# Altium footprint library EISI.PcbLib: 695 footprints (part 29 of 44)
Each footprint in its own frame and in the unit in brackets; x right, y up, seen from the top. Pads: shape width x height; smd on the part's side, far side on the other; paste and mask are expansions set on the pad; w line width, h text height; cw(c..) or ccw(c..) is an arc to the next point about the centre after c.
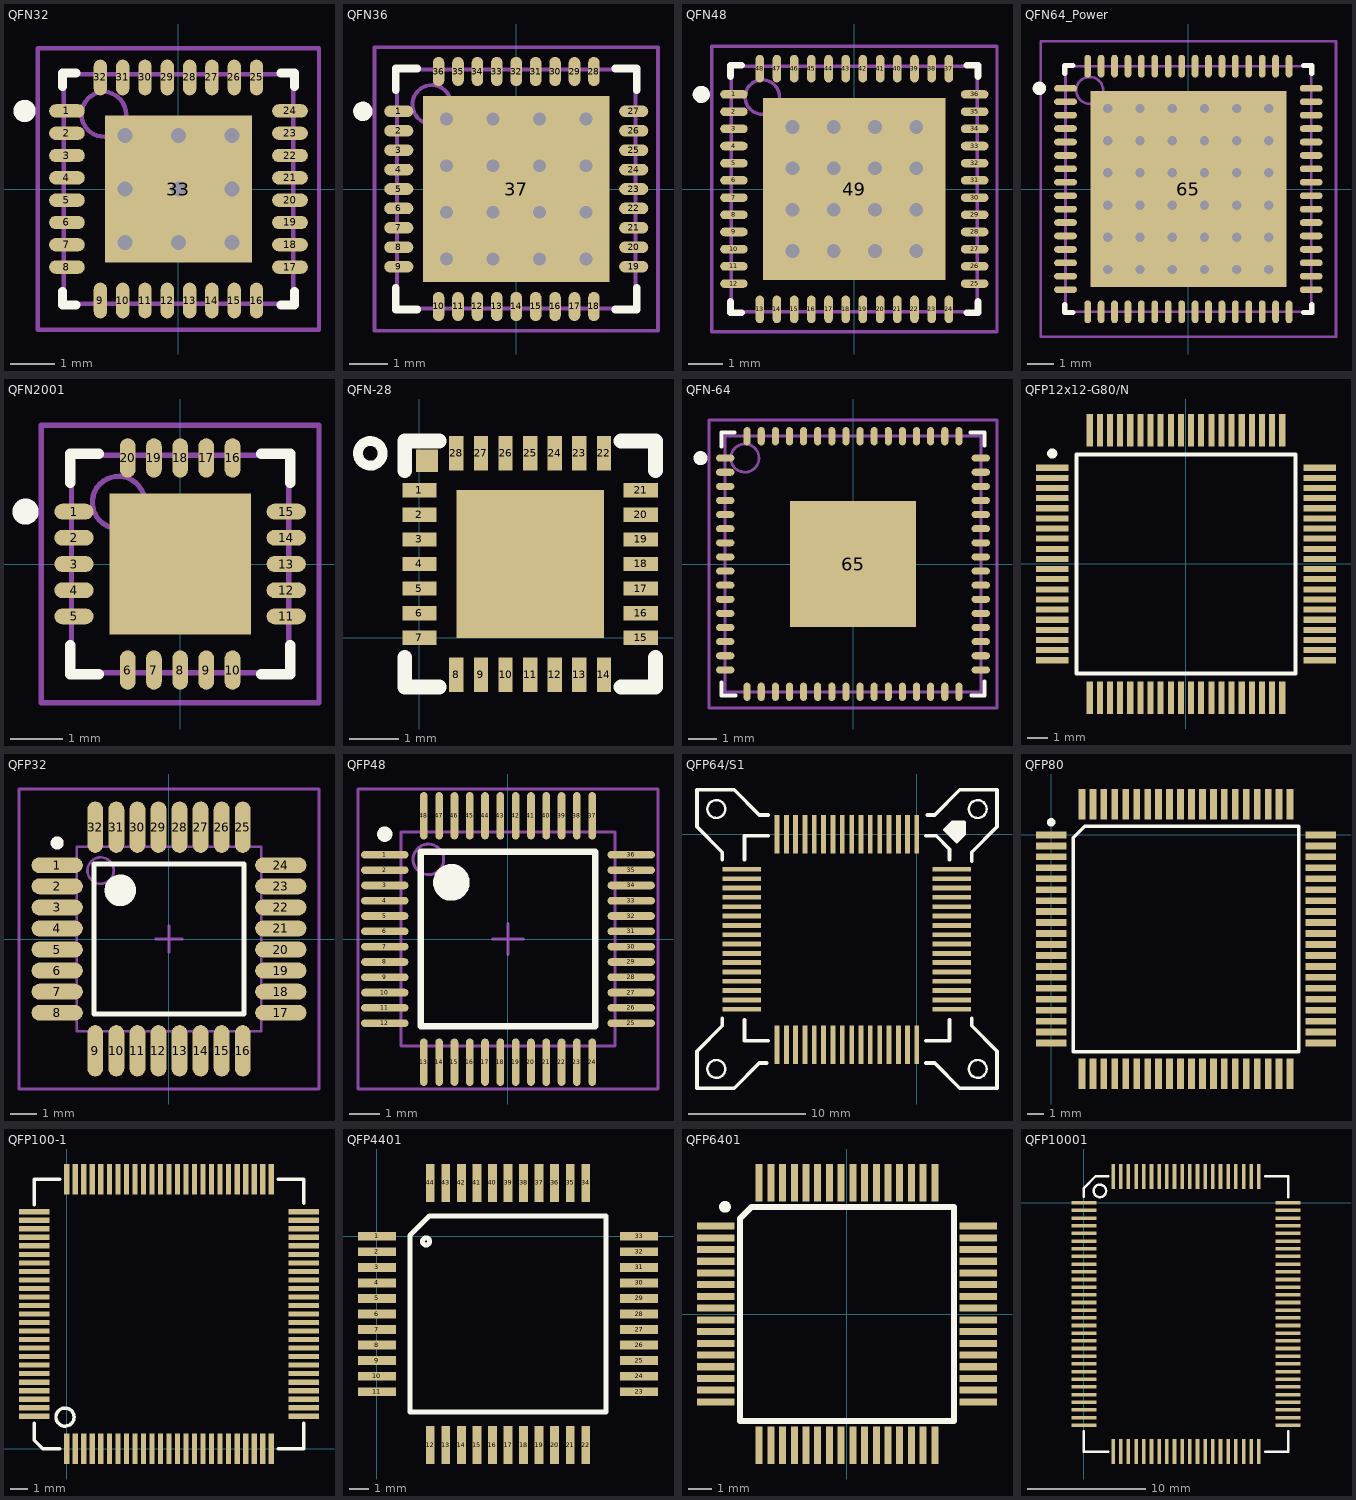
[diagram p28: the footprints below, top view; thin cyan lines are the x and y axes]

## QFN32 [mm] "QFN, 32-Leads, Body 5x5mm, Pitch 0.5mm, IPC Medium Density"
height 1
pads (33):
  oval 0.8x0.3 smd: 1(-2.5,1.75) 2(-2.5,1.25) 3(-2.5,0.75) 4(-2.5,0.25) 5(-2.5,-0.25) 6(-2.5,-0.75) 7(-2.5,-1.25) 8(-2.5,-1.75) 17(2.5,-1.75) 18(2.5,-1.25) 19(2.5,-0.75) 20(2.5,-0.25) 21(2.5,0.25) 22(2.5,0.75) 23(2.5,1.25) 24(2.5,1.75)
  oval 0.3x0.8 smd: 9(-1.75,-2.5) 10(-1.25,-2.5) 11(-0.75,-2.5) 12(-0.25,-2.5) 13(0.25,-2.5) 14(0.75,-2.5) 15(1.25,-2.5) 16(1.75,-2.5) 25(1.75,2.5) 26(1.25,2.5) 27(0.75,2.5) 28(0.25,2.5) 29(-0.25,2.5) 30(-0.75,2.5) 31(-1.25,2.5) 32(-1.75,2.5)
  rect 3.3x3.3 smd: 33(0,0)
via -1.2,1.2 diameter 0.66 hole 0.33
via 0,1.2 diameter 0.66 hole 0.33
via 1.2,1.2 diameter 0.66 hole 0.33
via -1.2,0 diameter 0.66 hole 0.33
via 0,0 diameter 0.66 hole 0.33
via 1.2,0 diameter 0.66 hole 0.33
via -1.2,-1.2 diameter 0.66 hole 0.33
via 0,-1.2 diameter 0.66 hole 0.33
via 1.2,-1.2 diameter 0.66 hole 0.33
TopOverlay:
  circle w0.25: c-3.45,1.75 r0.125
  lines w0.2: -2.6,-2.3 -2.6,-2.6 -2.3,-2.6 ; -2.6,2.3 -2.6,2.6 -2.3,2.6 ; 2.3,-2.6 2.6,-2.6 2.6,-2.3 ; 2.3,2.6 2.6,2.6 2.6,2.3
Mechanical13:
  circle w0.1: c-1.675,1.675 r0.5
  lines w0.1: -2.575,-2.575 -2.575,2.575 2.575,2.575 2.575,-2.575 -2.575,-2.575
Mechanical15:
  lines w0.1: -0.5,0 0.5,0 ; 0,-0.5 0,0.5 ; -3.15,-3.15 -3.15,3.15 3.15,3.15 3.15,-3.15 -3.15,-3.15
3D body: height 1, standoff 0, extent -2.575,-2.575 2.575,2.575

## QFN36 [mm] "QFN, 36-Leads, Body 6x6mm, Pitch 0.5mm, IPC Medium Density"
height 0.8
pads (37):
  oval 0.75x0.3 smd: 1(-3.025,2) 2(-3.025,1.5) 3(-3.025,1) 4(-3.025,0.5) 5(-3.025,0) 6(-3.025,-0.5) 7(-3.025,-1) 8(-3.025,-1.5) 9(-3.025,-2) 19(3.025,-2) 20(3.025,-1.5) 21(3.025,-1) 22(3.025,-0.5) 23(3.025,0) 24(3.025,0.5) 25(3.025,1) 26(3.025,1.5) 27(3.025,2)
  oval 0.3x0.75 smd: 10(-2,-3.025) 11(-1.5,-3.025) 12(-1,-3.025) 13(-0.5,-3.025) 14(0,-3.025) 15(0.5,-3.025) 16(1,-3.025) 17(1.5,-3.025) 18(2,-3.025) 28(2,3.025) 29(1.5,3.025) 30(1,3.025) 31(0.5,3.025) 32(0,3.025) 33(-0.5,3.025) 34(-1,3.025) 35(-1.5,3.025) 36(-2,3.025)
  rect 4.8x4.8 smd: 37(0,0)
via -1.8,1.8 diameter 0.66 hole 0.33
via -0.6,1.8 diameter 0.66 hole 0.33
via 0.6,1.8 diameter 0.66 hole 0.33
via 1.8,1.8 diameter 0.66 hole 0.33
via -1.8,0.6 diameter 0.66 hole 0.33
via -0.6,0.6 diameter 0.66 hole 0.33
via 0.6,0.6 diameter 0.66 hole 0.33
via 1.8,0.6 diameter 0.66 hole 0.33
via -1.8,-0.6 diameter 0.66 hole 0.33
via -0.6,-0.6 diameter 0.66 hole 0.33
via 0.6,-0.6 diameter 0.66 hole 0.33
via 1.8,-0.6 diameter 0.66 hole 0.33
via -1.8,-1.8 diameter 0.66 hole 0.33
via -0.6,-1.8 diameter 0.66 hole 0.33
via 0.6,-1.8 diameter 0.66 hole 0.33
via 1.8,-1.8 diameter 0.66 hole 0.33
TopOverlay:
  circle w0.25: c-3.95,2 r0.125
  lines w0.2: -3.1,-2.55 -3.1,-3.1 -2.55,-3.1 ; -3.1,2.55 -3.1,3.1 -2.55,3.1 ; 2.55,-3.1 3.1,-3.1 3.1,-2.55 ; 2.55,3.1 3.1,3.1 3.1,2.55
Mechanical13:
  circle w0.1: c-2.175,2.175 r0.5
  lines w0.1: -3.075,-3.075 -3.075,3.075 3.075,3.075 3.075,-3.075 -3.075,-3.075
Mechanical15:
  lines w0.1: -0.5,0 0.5,0 ; 0,-0.5 0,0.5 ; -3.65,-3.65 -3.65,3.65 3.65,3.65 3.65,-3.65 -3.65,-3.65
3D body: height 0.8, standoff 0, extent -3.075,-3.075 3.075,3.075

## QFN48 [mm] "48-Pin Quad Flat No-Lead (QFG48)"
height 1
pads (49):
  oval 0.8x0.25 smd: 1(-3.5,2.75) 2(-3.5,2.25) 3(-3.5,1.75) 4(-3.5,1.25) 5(-3.5,0.75) 6(-3.5,0.25) 7(-3.5,-0.25) 8(-3.5,-0.75) 9(-3.5,-1.25) 10(-3.5,-1.75) 11(-3.5,-2.25) 12(-3.5,-2.75) 25(3.5,-2.75) 26(3.5,-2.25) 27(3.5,-1.75) 28(3.5,-1.25) 29(3.5,-0.75) 30(3.5,-0.25) 31(3.5,0.25) 32(3.5,0.75) 33(3.5,1.25) 34(3.5,1.75) 35(3.5,2.25) 36(3.5,2.75)
  oval 0.25x0.8 smd: 13(-2.75,-3.5) 14(-2.25,-3.5) 15(-1.75,-3.5) 16(-1.25,-3.5) 17(-0.75,-3.5) 18(-0.25,-3.5) 19(0.25,-3.5) 20(0.75,-3.5) 21(1.25,-3.5) 22(1.75,-3.5) 23(2.25,-3.5) 24(2.75,-3.5) 37(2.75,3.5) 38(2.25,3.5) 39(1.75,3.5) 40(1.25,3.5) 41(0.75,3.5) 42(0.25,3.5) 43(-0.25,3.5) 44(-0.75,3.5) 45(-1.25,3.5) 46(-1.75,3.5) 47(-2.25,3.5) 48(-2.75,3.5)
  rect 5.3x5.3 smd: 49(0,0)
via -1.8,1.8 diameter 0.8 hole 0.4
via -0.6,1.8 diameter 0.8 hole 0.4
via 0.6,1.8 diameter 0.8 hole 0.4
via 1.8,1.8 diameter 0.8 hole 0.4
via -1.8,0.6 diameter 0.8 hole 0.4
via -0.6,0.6 diameter 0.8 hole 0.4
via 0.6,0.6 diameter 0.8 hole 0.4
via 1.8,0.6 diameter 0.8 hole 0.4
via -1.8,-0.6 diameter 0.8 hole 0.4
via -0.6,-0.6 diameter 0.8 hole 0.4
via 0.6,-0.6 diameter 0.8 hole 0.4
via 1.8,-0.6 diameter 0.8 hole 0.4
via -1.8,-1.8 diameter 0.8 hole 0.4
via -0.6,-1.8 diameter 0.8 hole 0.4
via 0.6,-1.8 diameter 0.8 hole 0.4
via 1.8,-1.8 diameter 0.8 hole 0.4
TopOverlay:
  circle w0.25: c-4.45,2.75 r0.125
  lines w0.2: -3.6,-3.275 -3.6,-3.6 -3.275,-3.6 ; -3.6,3.275 -3.6,3.6 -3.275,3.6 ; 3.275,-3.6 3.6,-3.6 3.6,-3.275 ; 3.275,3.6 3.6,3.6 3.6,3.275
Mechanical13:
  circle w0.1: c-2.675,2.675 r0.5
  lines w0.1: -3.575,-3.575 -3.575,3.575 3.575,3.575 3.575,-3.575 -3.575,-3.575
Mechanical15:
  lines w0.1: -0.5,0 0.5,0 ; 0,-0.5 0,0.5 ; -4.15,-4.15 -4.15,4.15 4.15,4.15 4.15,-4.15 -4.15,-4.15
3D body: height 1, standoff 0, extent -3.575,-3.575 3.575,3.575

## QFN64_Power [mm] "QFN, 64-Leads, Body 9x9mm, Pitch 0.5mm, IPC Low Density"
height 0.9
pads (65):
  oval 0.85x0.25 smd: 1(-4.575,3.75) 2(-4.575,3.25) 3(-4.575,2.75) 4(-4.575,2.25) 5(-4.575,1.75) 6(-4.575,1.25) 7(-4.575,0.75) 8(-4.575,0.25) 9(-4.575,-0.25) 10(-4.575,-0.75) 11(-4.575,-1.25) 12(-4.575,-1.75) 13(-4.575,-2.25) 14(-4.575,-2.75) 15(-4.575,-3.25) 16(-4.575,-3.75) 33(4.575,-3.75) 34(4.575,-3.25) 35(4.575,-2.75) 36(4.575,-2.25) 37(4.575,-1.75) 38(4.575,-1.25) 39(4.575,-0.75) 40(4.575,-0.25) 41(4.575,0.25) 42(4.575,0.75) 43(4.575,1.25) 44(4.575,1.75) 45(4.575,2.25) 46(4.575,2.75) 47(4.575,3.25) 48(4.575,3.75)
  oval 0.25x0.85 smd: 17(-3.75,-4.575) 18(-3.25,-4.575) 19(-2.75,-4.575) 20(-2.25,-4.575) 21(-1.75,-4.575) 22(-1.25,-4.575) 23(-0.75,-4.575) 24(-0.25,-4.575) 25(0.25,-4.575) 26(0.75,-4.575) 27(1.25,-4.575) 28(1.75,-4.575) 29(2.25,-4.575) 30(2.75,-4.575) 31(3.25,-4.575) 32(3.75,-4.575) 49(3.75,4.575) 50(3.25,4.575) 51(2.75,4.575) 52(2.25,4.575) 53(1.75,4.575) 54(1.25,4.575) 55(0.75,4.575) 56(0.25,4.575) 57(-0.25,4.575) 58(-0.75,4.575) 59(-1.25,4.575) 60(-1.75,4.575) 61(-2.25,4.575) 62(-2.75,4.575) 63(-3.25,4.575) 64(-3.75,4.575)
  rect 7.3x7.3 smd: 65(0,0)
via -3,3 diameter 0.7 hole 0.35
via -1.8,3 diameter 0.7 hole 0.35
via -0.6,3 diameter 0.7 hole 0.35
via 0.6,3 diameter 0.7 hole 0.35
via 1.8,3 diameter 0.7 hole 0.35
via 3,3 diameter 0.7 hole 0.35
via -3,1.8 diameter 0.7 hole 0.35
via -1.8,1.8 diameter 0.7 hole 0.35
via -0.6,1.8 diameter 0.7 hole 0.35
via 0.6,1.8 diameter 0.7 hole 0.35
via 1.8,1.8 diameter 0.7 hole 0.35
via 3,1.8 diameter 0.7 hole 0.35
via -3,0.6 diameter 0.7 hole 0.35
via -1.8,0.6 diameter 0.7 hole 0.35
via -0.6,0.6 diameter 0.7 hole 0.35
via 0.6,0.6 diameter 0.7 hole 0.35
via 1.8,0.6 diameter 0.7 hole 0.35
via 3,0.6 diameter 0.7 hole 0.35
via -3,-0.6 diameter 0.7 hole 0.35
via -1.8,-0.6 diameter 0.7 hole 0.35
via -0.6,-0.6 diameter 0.7 hole 0.35
via 0.6,-0.6 diameter 0.7 hole 0.35
via 1.8,-0.6 diameter 0.7 hole 0.35
via 3,-0.6 diameter 0.7 hole 0.35
via -3,-1.8 diameter 0.7 hole 0.35
via -1.8,-1.8 diameter 0.7 hole 0.35
via -0.6,-1.8 diameter 0.7 hole 0.35
via 0.6,-1.8 diameter 0.7 hole 0.35
via 1.8,-1.8 diameter 0.7 hole 0.35
via 3,-1.8 diameter 0.7 hole 0.35
via -3,-3 diameter 0.7 hole 0.35
via -1.8,-3 diameter 0.7 hole 0.35
via -0.6,-3 diameter 0.7 hole 0.35
via 0.6,-3 diameter 0.7 hole 0.35
via 1.8,-3 diameter 0.7 hole 0.35
via 3,-3 diameter 0.7 hole 0.35
TopOverlay:
  circle w0.25: c-5.55,3.75 r0.125
  lines w0.2: -4.6,-4.3 -4.6,-4.6 -4.3,-4.6 ; -4.6,4.3 -4.6,4.6 -4.3,4.6 ; 4.3,-4.6 4.6,-4.6 4.6,-4.3 ; 4.3,4.6 4.6,4.6 4.6,4.3
Mechanical13:
  circle w0.1: c-3.675,3.675 r0.5
  lines w0.1: -4.575,-4.575 -4.575,4.575 4.575,4.575 4.575,-4.575 -4.575,-4.575
Mechanical15:
  lines w0.1: -0.5,0 0.5,0 ; 0,-0.5 0,0.5 ; -5.5,-5.5 -5.5,5.5 5.5,5.5 5.5,-5.5 -5.5,-5.5
3D body: height 0.8, standoff 0, extent -4.575,-4.575 4.575,4.575

## QFN2001 [mm] "QFN, 20-Leads, Body 4x4mm, Pitch 0.5mm, IPC Medium Density"
height 0.8
pads (21):
  oval 0.75x0.3 smd: 1(-2.025,1) 2(-2.025,0.5) 3(-2.025,0) 4(-2.025,-0.5) 5(-2.025,-1) 11(2.025,-1) 12(2.025,-0.5) 13(2.025,0) 14(2.025,0.5) 15(2.025,1)
  oval 0.3x0.75 smd: 6(-1,-2.025) 7(-0.5,-2.025) 8(0,-2.025) 9(0.5,-2.025) 10(1,-2.025) 16(1,2.025) 17(0.5,2.025) 18(0,2.025) 19(-0.5,2.025) 20(-1,2.025)
  rect 2.7x2.7 smd: ""(0,0)
TopOverlay:
  circle w0.25: c-2.95,1 r0.125
  lines w0.2: -2.1,-1.55 -2.1,-2.1 -1.55,-2.1 ; -2.1,1.55 -2.1,2.1 -1.55,2.1 ; 1.55,-2.1 2.1,-2.1 2.1,-1.55 ; 1.55,2.1 2.1,2.1 2.1,1.55
Mechanical13:
  circle w0.1: c-1.175,1.175 r0.5
  lines w0.1: -2.075,-2.075 -2.075,2.075 2.075,2.075 2.075,-2.075 -2.075,-2.075
Mechanical15:
  lines w0.1: -0.5,0 0.5,0 ; 0,-0.5 0,0.5 ; -2.65,-2.65 -2.65,2.65 2.65,2.65 2.65,-2.65 -2.65,-2.65
3D body: height 0.8, standoff 0, extent -2.075,-2.075 2.075,2.075

## QFN-28 [mm] "Quad Flat No Lead, Plastic; 16 Terminals; Body 4 x 4 mm; Pitch 0.65 mm"
height 1
pads (30):
  rect 0.7x0.29 smd: 1(0,3) 2(0,2.5) 3(0,2) 4(0,1.5) 5(0,1) 6(0,0.5) 7(0,0) 15(4.5,0) 16(4.5,0.5) 17(4.5,1) 18(4.5,1.5) 19(4.5,2) 20(4.5,2.5) 21(4.5,3)
  rect 0.29x0.7 smd: 8(0.75,-0.75) 9(1.25,-0.75) 10(1.75,-0.75) 11(2.25,-0.75) 12(2.75,-0.75) 13(3.25,-0.75) 14(3.75,-0.75) 22(3.75,3.75) 23(3.25,3.75) 24(2.75,3.75) 25(2.25,3.75) 26(1.75,3.75) 27(1.25,3.75) 28(0.75,3.75)
  rect 0.45x0.45 smd: ""(0.15,3.6)
  rect 3x3 smd: ""(2.25,1.5)
TopOverlay:
  circle w0.2: c-1,3.75 r0.25
  lines w0.3: -0.3,-0.4 -0.3,-1 0.4,-1 ; -0.3,3.4 -0.3,4 0.4,4 ; 4.1,-1 4.8,-1 4.8,-0.4 ; 4.1,4 4.8,4 4.8,3.4

## QFN-64 [mm] "64-Pin QFN 0.5 mm Pitch"
height 1
pads (65):
  oval 0.65x0.25 smd: 1(-4.525,3.75) 2(-4.525,3.25) 3(-4.525,2.75) 4(-4.525,2.25) 5(-4.525,1.75) 6(-4.525,1.25) 7(-4.525,0.75) 8(-4.525,0.25) 9(-4.525,-0.25) 10(-4.525,-0.75) 11(-4.525,-1.25) 12(-4.525,-1.75) 13(-4.525,-2.25) 14(-4.525,-2.75) 15(-4.525,-3.25) 16(-4.525,-3.75) 33(4.525,-3.75) 34(4.525,-3.25) 35(4.525,-2.75) 36(4.525,-2.25) 37(4.525,-1.75) 38(4.525,-1.25) 39(4.525,-0.75) 40(4.525,-0.25) 41(4.525,0.25) 42(4.525,0.75) 43(4.525,1.25) 44(4.525,1.75) 45(4.525,2.25) 46(4.525,2.75) 47(4.525,3.25) 48(4.525,3.75)
  oval 0.25x0.65 smd: 17(-3.75,-4.525) 18(-3.25,-4.525) 19(-2.75,-4.525) 20(-2.25,-4.525) 21(-1.75,-4.525) 22(-1.25,-4.525) 23(-0.75,-4.525) 24(-0.25,-4.525) 25(0.25,-4.525) 26(0.75,-4.525) 27(1.25,-4.525) 28(1.75,-4.525) 29(2.25,-4.525) 30(2.75,-4.525) 31(3.25,-4.525) 32(3.75,-4.525) 49(3.75,4.525) 50(3.25,4.525) 51(2.75,4.525) 52(2.25,4.525) 53(1.75,4.525) 54(1.25,4.525) 55(0.75,4.525) 56(0.25,4.525) 57(-0.25,4.525) 58(-0.75,4.525) 59(-1.25,4.525) 60(-1.75,4.525) 61(-2.25,4.525) 62(-2.75,4.525) 63(-3.25,4.525) 64(-3.75,4.525)
  rect 4.45x4.45 smd: 65(0,0)
TopOverlay:
  circle w0.25: c-5.4,3.75 r0.125
  lines w0.15: -4.66,-4.2 -4.66,-4.66 -4.16,-4.66 ; -4.66,4.16 -4.66,4.66 -4.2,4.66 ; 4.16,4.66 4.66,4.66 4.66,4.2 ; 4.2,-4.66 4.66,-4.66 4.66,-4.16
Mechanical13:
  circle w0.1: c-3.83,3.75 r0.5
  lines w0.1: -4.535,-4.535 -4.535,4.535 4.535,4.535 4.535,-4.535 -4.535,-4.535
Mechanical15:
  lines w0.1: -0.5,0 0.5,0 ; 0,-0.5 0,0.5 ; -5.1,-5.1 -5.1,5.1 5.1,5.1 5.1,-5.1 -5.1,-5.1
3D body: height 1, standoff 0.05, extent -4.535,-4.535 4.535,4.535

## QFP12x12-G80/N [mm] "QFP80"
pads (80):
  rect 1.6x0.3 smd: 1(-6.6,4.75) 2(-6.6,4.25) 3(-6.6,3.75) 4(-6.6,3.25) 5(-6.6,2.75) 6(-6.6,2.25) 7(-6.6,1.75) 8(-6.6,1.25) 9(-6.6,0.75) 10(-6.6,0.25) 11(-6.6,-0.25) 12(-6.6,-0.75) 13(-6.6,-1.25) 14(-6.6,-1.75) 15(-6.6,-2.25) 16(-6.6,-2.75) 17(-6.6,-3.25) 18(-6.6,-3.75) 19(-6.6,-4.25) 20(-6.6,-4.75) 41(6.6,-4.75) 42(6.6,-4.25) 43(6.6,-3.75) 44(6.6,-3.25) 45(6.6,-2.75) 46(6.6,-2.25) 47(6.6,-1.75) 48(6.6,-1.25) 49(6.6,-0.75) 50(6.6,-0.25) 51(6.6,0.25) 52(6.6,0.75) 53(6.6,1.25) 54(6.6,1.75) 55(6.6,2.25) 56(6.6,2.75) 57(6.6,3.25) 58(6.6,3.75) 59(6.6,4.25) 60(6.6,4.75)
  rect 0.3x1.6 smd: 21(-4.75,-6.6) 22(-4.25,-6.6) 23(-3.75,-6.6) 24(-3.25,-6.6) 25(-2.75,-6.6) 26(-2.25,-6.6) 27(-1.75,-6.6) 28(-1.25,-6.6) 29(-0.75,-6.6) 30(-0.25,-6.6) 31(0.25,-6.6) 32(0.75,-6.6) 33(1.25,-6.6) 34(1.75,-6.6) 35(2.25,-6.6) 36(2.75,-6.6) 37(3.25,-6.6) 38(3.75,-6.6) 39(4.25,-6.6) 40(4.75,-6.6) 61(4.75,6.6) 62(4.25,6.6) 63(3.75,6.6) 64(3.25,6.6) 65(2.75,6.6) 66(2.25,6.6) 67(1.75,6.6) 68(1.25,6.6) 69(0.75,6.6) 70(0.25,6.6) 71(-0.25,6.6) 72(-0.75,6.6) 73(-1.25,6.6) 74(-1.75,6.6) 75(-2.25,6.6) 76(-2.75,6.6) 77(-3.25,6.6) 78(-3.75,6.6) 79(-4.25,6.6) 80(-4.75,6.6)
TopOverlay:
  circle w0.25: c-6.6,5.45 r0.125
  lines w0.2: -5.4,-5.4 5.4,-5.4 5.4,5.4 -5.4,5.4 -5.4,-5.4

## QFP32 [mm] "32-Pin Quad Flat Pack 0.8 mm Pitch"
height 1.7
pads (32):
  oval 1.95x0.6 smd: 1(-4.25,2.8) 2(-4.25,2) 3(-4.25,1.2) 4(-4.25,0.4) 5(-4.25,-0.4) 6(-4.25,-1.2) 7(-4.25,-2) 8(-4.25,-2.8) 17(4.25,-2.8) 18(4.25,-2) 19(4.25,-1.2) 20(4.25,-0.4) 21(4.25,0.4) 22(4.25,1.2) 23(4.25,2) 24(4.25,2.8)
  oval 0.6x1.95 smd: 9(-2.8,-4.25) 10(-2,-4.25) 11(-1.2,-4.25) 12(-0.4,-4.25) 13(0.4,-4.25) 14(1.2,-4.25) 15(2,-4.25) 16(2.8,-4.25) 25(2.8,4.25) 26(2,4.25) 27(1.2,4.25) 28(0.4,4.25) 29(-0.4,4.25) 30(-1.2,4.25) 31(-2,4.25) 32(-2.8,4.25)
TopOverlay:
  circle w0.6: c-1.85,1.85 r0.3
  circle w0.25: c-4.25,3.65 r0.125
  lines w0.2: -2.85,-2.85 2.85,-2.85 2.85,2.85 -2.85,2.85 -2.85,-2.85
Mechanical13:
  circle w0.1: c-2.6,2.6 r0.5
  lines w0.1: -3.5,-3.5 3.5,-3.5 3.5,3.5 -3.5,3.5 -3.5,-3.5
Mechanical15:
  lines w0.1: -0.5,0 0.5,0 ; 0,-0.5 0,0.5 ; -5.7,-5.7 5.7,-5.7 5.7,5.7 -5.7,5.7 -5.7,-5.7
3D body: height 1.7, standoff 0, extent -3.5,-3.5 3.5,3.5

## QFP48 [mm] "48-Pin Thin Quad Flat Pack 0.5 mm Pitch, IPC High Density"
height 1.6
pads (48):
  oval 1.55x0.25 smd: 1(-4.025,2.75) 2(-4.025,2.25) 3(-4.025,1.75) 4(-4.025,1.25) 5(-4.025,0.75) 6(-4.025,0.25) 7(-4.025,-0.25) 8(-4.025,-0.75) 9(-4.025,-1.25) 10(-4.025,-1.75) 11(-4.025,-2.25) 12(-4.025,-2.75) 25(4.025,-2.75) 26(4.025,-2.25) 27(4.025,-1.75) 28(4.025,-1.25) 29(4.025,-0.75) 30(4.025,-0.25) 31(4.025,0.25) 32(4.025,0.75) 33(4.025,1.25) 34(4.025,1.75) 35(4.025,2.25) 36(4.025,2.75)
  oval 0.25x1.55 smd: 13(-2.75,-4.025) 14(-2.25,-4.025) 15(-1.75,-4.025) 16(-1.25,-4.025) 17(-0.75,-4.025) 18(-0.25,-4.025) 19(0.25,-4.025) 20(0.75,-4.025) 21(1.25,-4.025) 22(1.75,-4.025) 23(2.25,-4.025) 24(2.75,-4.025) 37(2.75,4.025) 38(2.25,4.025) 39(1.75,4.025) 40(1.25,4.025) 41(0.75,4.025) 42(0.25,4.025) 43(-0.25,4.025) 44(-0.75,4.025) 45(-1.25,4.025) 46(-1.75,4.025) 47(-2.25,4.025) 48(-2.75,4.025)
TopOverlay:
  circle w0.25: c-4.025,3.425 r0.125
  circle w0.6: c-1.85,1.85 r0.3
  lines w0.2: -2.85,-2.85 -2.85,2.85 2.85,2.85 2.85,-2.85 -2.85,-2.85
Mechanical13:
  circle w0.1: c-2.6,2.6 r0.5
  lines w0.1: -3.5,-3.5 -3.5,3.5 3.5,3.5 3.5,-3.5 -3.5,-3.5
Mechanical15:
  lines w0.1: -0.5,0 0.5,0 ; 0,-0.5 0,0.5 ; -4.9,-4.9 -4.9,4.9 4.9,4.9 4.9,-4.9 -4.9,-4.9
3D body: height 1.6, standoff 0, extent -3.5,-3.5 3.5,3.5

## QFP64/S1 [mil]
pads (64):
  rect 16x130 smd: 1(0,0) 2(-31,0) 3(-62,0) 4(-94,0) 5(-125,0) 6(-157,0) 7(-188,0) 8(-219,0) 9(-251,0) 10(-282,0) 11(-314,0) 12(-345,0) 13(-376,0) 14(-408,0) 15(-439,0) 16(-471,0) 33(-471,-708) 34(-439,-708) 35(-408,-708) 36(-376,-708) 37(-345,-708) 38(-314,-708) 39(-282,-708) 40(-251,-708) 41(-219,-708) 42(-188,-708) 43(-157,-708) 44(-125,-708) 45(-94,-708) 46(-62,-708) 47(-31,-708) 48(0,-708)
  rect 130x16 smd: 17(-589,-118) 18(-589,-150) 19(-589,-181) 20(-589,-212) 21(-589,-244) 22(-589,-275) 23(-589,-307) 24(-589,-338) 25(-589,-369) 26(-589,-401) 27(-589,-432) 28(-589,-464) 29(-589,-495) 30(-589,-526) 31(-589,-558) 32(-589,-589) 49(118,-589) 50(118,-558) 51(118,-526) 52(118,-495) 53(118,-464) 54(118,-432) 55(118,-401) 56(118,-369) 57(118,-338) 58(118,-307) 59(118,-275) 60(118,-244) 61(118,-212) 62(118,-181) 63(118,-150) 64(118,-118)
TopOverlay:
  circle w8: c-675,85 r30
  circle w8: c205,-790 r30
  circle w8: c-675,-790 r30
  circle w8: c205,85 r30
  lines w12: -655,-620 -655,-645 -740,-730 -740,-855 -615,-855 -530,-770 -505,-770 ; -655,-85 -655,-60 -740,25 -740,150 -615,150 -530,65 -500,65 ; -580,-625 -580,-695 -500,-695 ; -580,-85 -580,-5 -500,-5 ; 30,-770 60,-770 145,-855 270,-855 270,-730 185,-645 185,-620 ; 30,-695 110,-695 110,-625 ; 30,-5 65,-5 110,-50 110,-85 ; 35,65 60,65 145,150 270,150 270,25 185,-60 185,-90 ; 115,30 145,0 ; 140,-5 110,25 110,15 140,-15 145,-10 ; 140,25 140,35 ; 145,-5 150,0 ; 150,15 150,35 ; 120,40 160,40 160,0 ; 120,40 95,15 135,-25 160,0 ; 120,40 160,0

## QFP80 [mm] "Plastic QFP; 80 Leads; Body 14 x 14 mm; Pitch 0.65 mm"
height 2.45
pads (80):
  rect 1.8x0.4 smd: 1(0,0) 2(0,-0.65) 3(0,-1.3) 4(0,-1.95) 5(0,-2.6) 6(0,-3.25) 7(0,-3.9) 8(0,-4.55) 9(0,-5.2) 10(0,-5.85) 11(0,-6.5) 12(0,-7.15) 13(0,-7.8) 14(0,-8.45) 15(0,-9.1) 16(0,-9.75) 17(0,-10.4) 18(0,-11.05) 19(0,-11.7) 20(0,-12.35) 41(16,-12.35) 42(16,-11.7) 43(16,-11.05) 44(16,-10.4) 45(16,-9.75) 46(16,-9.1) 47(16,-8.45) 48(16,-7.8) 49(16,-7.15) 50(16,-6.5) 51(16,-5.85) 52(16,-5.2) 53(16,-4.55) 54(16,-3.9) 55(16,-3.25) 56(16,-2.6) 57(16,-1.95) 58(16,-1.3) 59(16,-0.65) 60(16,0)
  rect 0.4x1.8 smd: 21(1.825,-14.175) 22(2.475,-14.175) 23(3.125,-14.175) 24(3.775,-14.175) 25(4.425,-14.175) 26(5.075,-14.175) 27(5.725,-14.175) 28(6.375,-14.175) 29(7.025,-14.175) 30(7.675,-14.175) 31(8.325,-14.175) 32(8.975,-14.175) 33(9.625,-14.175) 34(10.275,-14.175) 35(10.925,-14.175) 36(11.575,-14.175) 37(12.225,-14.175) 38(12.875,-14.175) 39(13.525,-14.175) 40(14.175,-14.175) 61(14.175,1.825) 62(13.525,1.825) 63(12.875,1.825) 64(12.225,1.825) 65(11.575,1.825) 66(10.925,1.825) 67(10.275,1.825) 68(9.625,1.825) 69(8.975,1.825) 70(8.325,1.825) 71(7.675,1.825) 72(7.025,1.825) 73(6.375,1.825) 74(5.725,1.825) 75(5.075,1.825) 76(4.425,1.825) 77(3.775,1.825) 78(3.125,1.825) 79(2.475,1.825) 80(1.825,1.825)
TopOverlay:
  circle w0.25: c0,0.75 r0.125
  lines w0.2: 1.3,-12.875 1.3,-0.175 2,0.525 14.7,0.525 14.7,-12.875 1.3,-12.875

## QFP100-1 [mil]
pads (100):
  rect 12.01x70.98 smd: 1(0,0) 2(19.68,0)
  rect 12x71 smd: 3(39.37,0) 4(59.06,0) 5(78.74,0) 6(98.43,0) 7(118.11,0) 8(137.8,0) 9(157.48,0) 10(177.17,0) 11(196.85,0) 12(216.54,0) 13(236.22,0) 14(255.91,0) 15(275.59,0) 16(295.28,0) 17(314.96,0) 18(334.65,0) 19(354.33,0) 20(374.02,0) 21(393.7,0) 22(413.39,0) 23(433.07,0) 24(452.76,0) 25(472.44,0) 51(472.44,622.05) 52(452.76,622.05) 53(433.07,622.05) 54(413.39,622.05) 55(393.7,622.05) 56(374.02,622.05) 57(354.33,622.05) 58(334.65,622.05) 59(314.96,622.05) 60(295.28,622.05) 61(275.59,622.05) 62(255.91,622.05) 63(236.22,622.05) 64(216.53,622.05) 65(196.85,622.05) 66(177.17,622.05) 67(157.48,622.05) 68(137.8,622.05) 69(118.11,622.05) 70(98.43,622.05) 71(78.74,622.05) 72(59.06,622.05) 73(39.37,622.05) 74(19.68,622.05) 75(0,622.05)
  rect 71x12 smd: 26(547.24,74.8) 27(547.24,94.49) 28(547.24,114.17) 29(547.24,133.86) 30(547.24,153.54) 31(547.24,173.23) 32(547.24,192.91) 33(547.24,212.6) 34(547.24,232.28) 35(547.24,251.97) 36(547.24,271.65) 37(547.24,291.34) 38(547.24,311.02) 39(547.24,330.71) 40(547.24,350.39) 41(547.24,370.08) 42(547.24,389.76) 43(547.24,409.45) 44(547.24,429.13) 45(547.24,448.82) 46(547.24,468.5) 47(547.24,488.19) 48(547.24,507.87) 49(547.24,527.56) 50(547.24,547.24) 77(-74.8,527.56) 78(-74.8,507.87) 79(-74.8,488.19) 80(-74.8,468.5) 81(-74.8,448.82) 82(-74.8,429.13) 83(-74.8,409.45) 84(-74.8,389.76) 85(-74.8,370.08) 86(-74.8,350.39) 87(-74.8,330.71) 88(-74.8,311.02) 89(-74.8,291.34) 90(-74.8,271.65) 91(-74.8,251.97) 92(-74.8,232.28) 93(-74.8,212.6) 94(-74.8,192.91) 95(-74.8,173.23) 96(-74.8,153.54) 97(-74.8,133.86) 98(-74.8,114.17) 99(-74.8,94.49) 100(-74.8,74.8)
  rect 70.98x12.01 smd: 76(-74.8,547.24)
TopOverlay:
  circle w8: c-3.94,72.83 r20.93
  lines w7.87: -74.8,59.06 -74.8,19.68 -55.12,0 -15.75,0 ; -74.8,562.99 -74.8,622.05 -15.75,622.05 ; 488.19,0 547.24,0 547.24,59.06 ; 488.19,622.05 547.24,622.05 547.24,566.93

## QFP4401 [mm]
pads (44):
  rect 1.95x0.45 smd: 1(0,0) 2(0,-0.8) 3(0,-1.6) 4(0,-2.4) 5(0,-3.2) 6(0,-4) 7(0,-4.8) 8(0,-5.6) 9(0,-6.4) 10(0,-7.2) 11(0,-8) 23(13.5,-8) 24(13.5,-7.2) 25(13.5,-6.4) 26(13.5,-5.6) 27(13.5,-4.8) 28(13.5,-4) 29(13.5,-3.2) 30(13.5,-2.4) 31(13.5,-1.6) 32(13.5,-0.8) 33(13.5,0)
  rect 0.45x1.95 smd: 12(2.75,-10.75) 13(3.55,-10.75) 14(4.35,-10.75) 15(5.15,-10.75) 16(5.95,-10.75) 17(6.75,-10.75) 18(7.55,-10.75) 19(8.35,-10.75) 20(9.15,-10.75) 21(9.95,-10.75) 22(10.75,-10.75) 34(10.75,2.75) 35(9.95,2.75) 36(9.15,2.75) 37(8.35,2.75) 38(7.55,2.75) 39(6.75,2.75) 40(5.95,2.75) 41(5.15,2.75) 42(4.35,2.75) 43(3.55,2.75) 44(2.75,2.75)
TopOverlay:
  circle w0.254: c2.533,-0.262 r0.183
  lines w0.254: 1.7,-9.05 11.8,-9.05 11.8,1.05 2.7,1.05 1.7,0.05 1.7,-9.05

## QFP6401 [mm]
pads (64):
  rect 1.6x0.3 smd: 1(-5.6,3.75) 2(-5.6,3.25) 3(-5.6,2.75) 4(-5.6,2.25) 5(-5.6,1.75) 6(-5.6,1.25) 7(-5.6,0.75) 8(-5.6,0.25) 9(-5.6,-0.25) 10(-5.6,-0.75) 11(-5.6,-1.25) 12(-5.6,-1.75) 13(-5.6,-2.25) 14(-5.6,-2.75) 15(-5.6,-3.25) 16(-5.6,-3.75) 33(5.6,-3.75) 34(5.6,-3.25) 35(5.6,-2.75) 36(5.6,-2.25) 37(5.6,-1.75) 38(5.6,-1.25) 39(5.6,-0.75) 40(5.6,-0.25) 41(5.6,0.25) 42(5.6,0.75) 43(5.6,1.25) 44(5.6,1.75) 45(5.6,2.25) 46(5.6,2.75) 47(5.6,3.25) 48(5.6,3.75)
  rect 0.3x1.6 smd: 17(-3.75,-5.6) 18(-3.25,-5.6) 19(-2.75,-5.6) 20(-2.25,-5.6) 21(-1.75,-5.6) 22(-1.25,-5.6) 23(-0.75,-5.6) 24(-0.25,-5.6) 25(0.25,-5.6) 26(0.75,-5.6) 27(1.25,-5.6) 28(1.75,-5.6) 29(2.25,-5.6) 30(2.75,-5.6) 31(3.25,-5.6) 32(3.75,-5.6) 49(3.75,5.6) 50(3.25,5.6) 51(2.75,5.6) 52(2.25,5.6) 53(1.75,5.6) 54(1.25,5.6) 55(0.75,5.6) 56(0.25,5.6) 57(-0.25,5.6) 58(-0.75,5.6) 59(-1.25,5.6) 60(-1.75,5.6) 61(-2.25,5.6) 62(-2.75,5.6) 63(-3.25,5.6) 64(-3.75,5.6)
TopOverlay:
  circle w0.25: c-5.205,4.572 r0.125
  lines w0.254: -4.572,-4.572 -4.572,4.064 -4.064,4.572 4.572,4.572 4.572,-4.572 -4.572,-4.572

## QFP10001 [mil]
pads (100):
  rect 83x12 smd: 1(0,0) 2(0,-25.59) 3(0,-51.18) 4(0,-76.77) 5(0,-102.36) 6(0,-127.95) 7(0,-153.54) 8(0,-179.13) 9(0,-204.72) 10(0,-230.31) 11(0,-255.91) 12(0,-281.5) 13(0,-307.09) 14(0,-332.68) 15(0,-358.27) 16(0,-383.86) 17(0,-409.45) 18(0,-435.04) 19(0,-460.63) 20(0,-486.22) 21(0,-511.81) 22(0,-537.4) 23(0,-562.99) 24(0,-588.58) 25(0,-614.17) 26(0,-639.76) 27(0,-665.35) 28(0,-690.94) 29(0,-716.54) 30(0,-742.13) 51(681.1,-742.13) 52(681.1,-716.54) 53(681.1,-690.94) 54(681.1,-665.35) 55(681.1,-639.76) 56(681.1,-614.17) 57(681.1,-588.58) 58(681.1,-562.99) 59(681.1,-537.4) 60(681.1,-511.81) 61(681.1,-486.22) 62(681.1,-460.63) 63(681.1,-435.04) 64(681.1,-409.45) 65(681.1,-383.86) 66(681.1,-358.27) 67(681.1,-332.68) 68(681.1,-307.09) 69(681.1,-281.5) 70(681.1,-255.91) 71(681.1,-230.31) 72(681.1,-204.72) 73(681.1,-179.13) 74(681.1,-153.54) 75(681.1,-127.95) 76(681.1,-102.36) 77(681.1,-76.77) 78(681.1,-51.18) 79(681.1,-25.59) 80(681.1,0)
  rect 12x83 smd: 31(97.44,-829.72) 32(123.03,-829.72) 33(148.62,-829.72) 34(174.21,-829.72) 35(199.8,-829.72) 36(225.39,-829.72) 37(250.98,-829.72) 38(276.57,-829.72) 39(302.17,-829.72) 40(327.76,-829.72) 41(353.35,-829.72) 42(378.94,-829.72) 43(404.53,-829.72) 44(430.12,-829.72) 45(455.71,-829.72) 46(481.3,-829.72) 47(506.89,-829.72) 48(532.48,-829.72) 49(558.07,-829.72) 50(583.66,-829.72) 81(583.66,87.6) 82(558.07,87.6) 83(532.48,87.6) 84(506.89,87.6) 85(481.3,87.6) 86(455.71,87.6) 87(430.12,87.6) 88(404.53,87.6) 89(378.94,87.6) 90(353.35,87.6) 91(327.76,87.6) 92(302.17,87.6) 93(276.57,87.6) 94(250.98,87.6) 95(225.39,87.6) 96(199.8,87.6) 97(174.21,87.6) 98(148.62,87.6) 99(123.03,87.6) 100(97.44,87.6)
TopOverlay:
  circle w8: c53.15,39.37 r20.93
  lines w7.87: 0,-762 0,-830.71 80.71,-830.71 ; 0,19.68 0,49.21 39.37,88.58 80.71,88.58 ; 604.33,-830.71 681.1,-830.71 681.1,-761.81 ; 604.33,88.58 681.1,88.58 681.1,17.72